# EAGLE library part ISP-AVR910 (library custom)
PIN HEADER
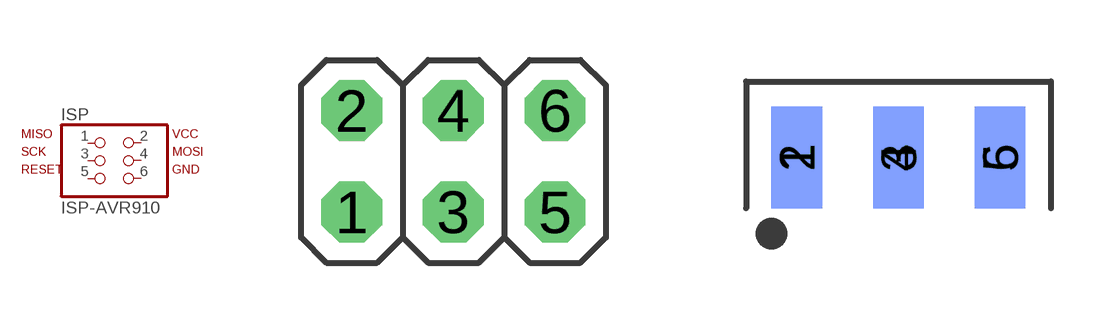
[diagram p20: symbol with the pads of 2X03; footprints 2X03, 2X03_BORDER]

Designator prefix ISP

## ISP-AVR910PTH  [2X03]
1  1  pas
2  2  pas
3  3  pas
4  4  pas
5  5  pas
6  6  pas

## ISP-AVR910SMD  [2X03_BORDER]
Pads as for 2X03

## Footprint 2X03 (pad centres in mm)
PIN HEADER
drill 1.016 octagon: 1 -2.54,-1.27; 2 -2.54,1.27; 3 0,-1.27; 4 0,1.27; 5 2.54,-1.27; 6 2.54,1.27

## Footprint 2X03_BORDER (pad centres in mm)
smd 1.27 x 2.54: 1 -2.54,0; 3 0,0; 5 2.54,0
smd 1.27 x 2.54 bottom: 2 -2.54,0; 4 0,0; 6 2.54,0